# Altium footprint library imx8mnano.PcbLib: 15 footprints
Each footprint in its own frame and in the unit in brackets; x right, y up, seen from the top. Pads: shape width x height; smd on the part's side, far side on the other; paste and mask are expansions set on the pad; w line width, h text height; cw(c..) or ccw(c..) is an arc to the next point about the centre after c.
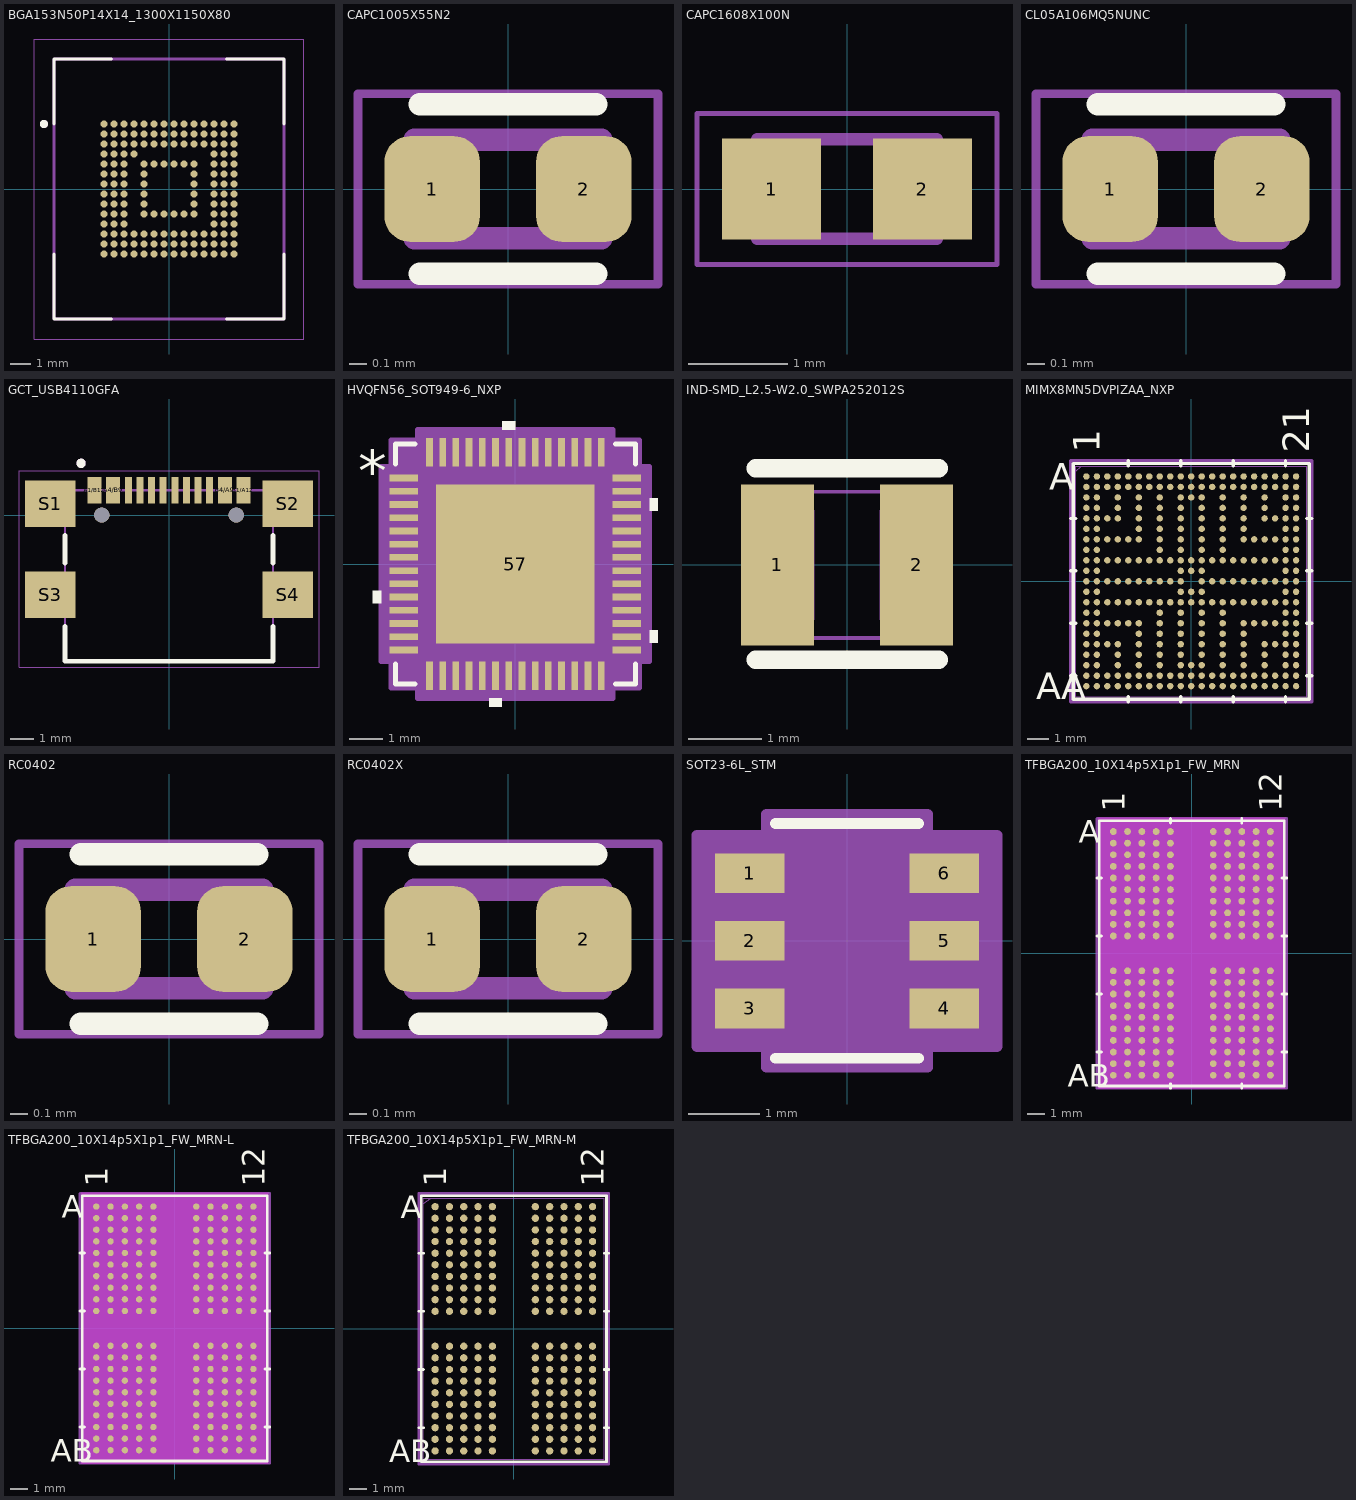
[diagram p0: the footprints below, top view; thin cyan lines are the x and y axes]

## BGA153N50P14X14_1300X1150X80 [mm]
height 0.8
pads (153):
  round 0.35 smd: A1(-3.25,3.25) A2(-2.75,3.25) A3(-2.25,3.25) A4(-1.75,3.25) A5(-1.25,3.25) A6(-0.75,3.25) A7(-0.25,3.25) A8(0.25,3.25) A9(0.75,3.25) A10(1.25,3.25) A11(1.75,3.25) A12(2.25,3.25) A13(2.75,3.25) A14(3.25,3.25) B1(-3.25,2.75) B2(-2.75,2.75) B3(-2.25,2.75) B4(-1.75,2.75) B5(-1.25,2.75) B6(-0.75,2.75) B7(-0.25,2.75) B8(0.25,2.75) B9(0.75,2.75) B10(1.25,2.75) B11(1.75,2.75) B12(2.25,2.75) B13(2.75,2.75) B14(3.25,2.75) C1(-3.25,2.25) C2(-2.75,2.25) C3(-2.25,2.25) C4(-1.75,2.25) C5(-1.25,2.25) C6(-0.75,2.25) C7(-0.25,2.25) C8(0.25,2.25) C9(0.75,2.25) C10(1.25,2.25) C11(1.75,2.25) C12(2.25,2.25) C13(2.75,2.25) C14(3.25,2.25) D1(-3.25,1.75) D2(-2.75,1.75) D3(-2.25,1.75) D4(-1.75,1.75) D12(2.25,1.75) D13(2.75,1.75) D14(3.25,1.75) E1(-3.25,1.25) E2(-2.75,1.25) E3(-2.25,1.25) E5(-1.25,1.25) E6(-0.75,1.25) E7(-0.25,1.25) E8(0.25,1.25) E9(0.75,1.25) E10(1.25,1.25) E12(2.25,1.25) E13(2.75,1.25) E14(3.25,1.25) F1(-3.25,0.75) F2(-2.75,0.75) F3(-2.25,0.75) F5(-1.25,0.75) F10(1.25,0.75) F12(2.25,0.75) F13(2.75,0.75) F14(3.25,0.75) G1(-3.25,0.25) G2(-2.75,0.25) G3(-2.25,0.25) G5(-1.25,0.25) G10(1.25,0.25) G12(2.25,0.25) G13(2.75,0.25) G14(3.25,0.25) H1(-3.25,-0.25) H2(-2.75,-0.25) H3(-2.25,-0.25) H5(-1.25,-0.25) H10(1.25,-0.25) H12(2.25,-0.25) H13(2.75,-0.25) H14(3.25,-0.25) J1(-3.25,-0.75) J2(-2.75,-0.75) J3(-2.25,-0.75) J5(-1.25,-0.75) J10(1.25,-0.75) J12(2.25,-0.75) J13(2.75,-0.75) J14(3.25,-0.75) K1(-3.25,-1.25) K2(-2.75,-1.25) K3(-2.25,-1.25) K5(-1.25,-1.25) K6(-0.75,-1.25) K7(-0.25,-1.25) K8(0.25,-1.25) K9(0.75,-1.25) K10(1.25,-1.25) K12(2.25,-1.25) K13(2.75,-1.25) K14(3.25,-1.25) L1(-3.25,-1.75) L2(-2.75,-1.75) L3(-2.25,-1.75) L12(2.25,-1.75) L13(2.75,-1.75) L14(3.25,-1.75) M1(-3.25,-2.25) M2(-2.75,-2.25) M3(-2.25,-2.25) M4(-1.75,-2.25) M5(-1.25,-2.25) M6(-0.75,-2.25) M7(-0.25,-2.25) M8(0.25,-2.25) M9(0.75,-2.25) M10(1.25,-2.25) M11(1.75,-2.25) M12(2.25,-2.25) M13(2.75,-2.25) M14(3.25,-2.25) N1(-3.25,-2.75) N2(-2.75,-2.75) N3(-2.25,-2.75) N4(-1.75,-2.75) N5(-1.25,-2.75) N6(-0.75,-2.75) N7(-0.25,-2.75) N8(0.25,-2.75) N9(0.75,-2.75) N10(1.25,-2.75) N11(1.75,-2.75) N12(2.25,-2.75) N13(2.75,-2.75) N14(3.25,-2.75) P1(-3.25,-3.25) P2(-2.75,-3.25) P3(-2.25,-3.25) P4(-1.75,-3.25) P5(-1.25,-3.25) P6(-0.75,-3.25) P7(-0.25,-3.25) P8(0.25,-3.25) P9(0.75,-3.25) P10(1.25,-3.25) P11(1.75,-3.25) P12(2.25,-3.25) P13(2.75,-3.25) P14(3.25,-3.25)
Top Overlay:
  circle w0.2: c-6.25,3.25 r0.1
  lines w0.127: -5.75,-3.25 -5.75,-6.5 -2.875,-6.5 ; -5.75,3.25 -5.75,6.5 -2.875,6.5 ; 2.875,-6.5 5.75,-6.5 5.75,-3.25 ; 2.875,6.5 5.75,6.5 5.75,3.25
Mechanical 13:
  circle w0.2: c-6.25,3.25 r0.1
  lines w0.127: -5.75,-6.5 5.75,-6.5 5.75,6.5 -5.75,6.5 -5.75,-6.5
Mechanical 15:
  lines w0.05: -6.75,-7.5 6.75,-7.5 6.75,7.5 -6.75,7.5 -6.75,-7.5

## CAPC1005X55N2 [mm]
pads (2):
  rrect53% 0.54x0.6 smd: 1(-0.43,0) 2(0.43,0)
Top Overlay:
  lines w0.127: -0.5,-0.48 0.5,-0.48 ; -0.5,0.48 0.5,0.48
Mechanical 13:
  lines w0.127: -0.53,-0.28 0.53,-0.28 0.53,0.28 -0.53,0.28 -0.53,-0.28
Mechanical 15:
  lines w0.05: -0.85,-0.54 0.85,-0.54 0.85,0.54 -0.85,0.54 -0.85,-0.54
3D body "YAG_CC0402_YAG.step": height 0.56, standoff 0, extent -0.521,-0.279 0.521,0.279

## CAPC1608X100N [mm]
pads (2):
  rect 1x1.02 smd: 1(-0.759,0) 2(0.759,0)
Mechanical 13:
  lines w0.127: -0.9,-0.5 -0.9,0.5 0.9,0.5 0.9,-0.5 -0.9,-0.5
Mechanical 15:
  lines w0.05: -1.508,-0.758 -1.508,0.758 1.508,0.758 1.508,-0.758 -1.508,-0.758
3D body "step_temp.STEP": height 1, standoff 0, extent -0.8,-0.4 0.8,0.4

## CL05A106MQ5NUNC [mm]
pads (2):
  rrect53% 0.54x0.6 smd: 1(-0.43,0) 2(0.43,0)
Top Overlay:
  lines w0.127: -0.5,-0.48 0.5,-0.48 ; -0.5,0.48 0.5,0.48
Mechanical 13:
  lines w0.127: -0.53,-0.28 -0.53,0.28 0.53,0.28 0.53,-0.28 -0.53,-0.28
Mechanical 15:
  lines w0.05: -0.85,-0.54 -0.85,0.54 0.85,0.54 0.85,-0.54 -0.85,-0.54

## GCT_USB4110GFA [mm]
pads (18):
  rect 0.6x1.15 smd: A1/B12(-3.2,1.075) A4/B9(-2.4,1.075) B1/A12(3.2,1.075) B4/A9(2.4,1.075)
  rect 0.3x1.15 smd: A5(-1.25,1.075) A6(-0.25,1.075) A7(0.25,1.075) A8(1.25,1.075) B5(1.75,1.075) B6(0.75,1.075) B7(-0.75,1.075) B8(-1.75,1.075)
  rect 2.18x2 smd: S1(-5.11,0.5) S2(5.11,0.5) S3(-5.11,-3.43) S4(5.11,-3.43)
  round 0.65 hole 0.65 unplated: ""(-2.89,0) ""(2.89,0)
Top Overlay:
  circle w0.2: c-3.78,2.23 r0.1
  lines w0.2: -4.47,-4.79 -4.47,-6.28 4.47,-6.28 4.47,-4.79 ; -4.47,-2.07 -4.47,-0.86 ; 4.47,-2.07 4.47,-0.86
Mechanical 13:
  circle w0.2: c-3.78,2.23 r0.1
  lines w0.1: -4.47,-6.28 4.47,-6.28 4.47,1.07 -4.47,1.07 -4.47,-6.28
Mechanical 15:
  lines w0.05: -6.45,-6.53 -6.45,1.9 6.45,1.9 6.45,-6.53 -6.45,-6.53
3D body "step_temp.STEP": height 3.26, standoff -0.63, extent -5.65,-6.28 5.65,1.42

## HVQFN56_SOT949-6_NXP [mil]
pads (57):
  rect 34x8 smd paste+0 mask+0: 1(-133,102.36) 2(-133,86.61) 3(-133,70.87) 4(-133,55.12) 5(-133,39.37) 6(-133,23.62) 7(-133,7.87) 8(-133,-7.87) 9(-133,-23.62) 10(-133,-39.37) 11(-133,-55.12) 12(-133,-70.87) 13(-133,-86.61) 14(-133,-102.36) 29(133,-102.36) 30(133,-86.61) 31(133,-70.87) 32(133,-55.12) 33(133,-39.37) 34(133,-23.62) 35(133,-7.87) 36(133,7.87) 37(133,23.62) 38(133,39.37) 39(133,55.12) 40(133,70.87) 41(133,86.61) 42(133,102.36)
  rect 8x34 smd paste+0 mask+0: 15(-102.36,-133) 16(-86.61,-133) 17(-70.87,-133) 18(-55.12,-133) 19(-39.37,-133) 20(-23.62,-133) 21(-7.87,-133) 22(7.87,-133) 23(23.62,-133) 24(39.37,-133) 25(55.12,-133) 26(70.87,-133) 27(86.61,-133) 28(102.36,-133) 43(102.36,133) 44(86.61,133) 45(70.87,133) 46(55.12,133) 47(39.37,133) 48(23.62,133) 49(7.87,133) 50(-7.87,133) 51(-23.62,133) 52(-39.37,133) 53(-55.12,133) 54(-70.87,133) 55(-86.61,133) 56(-102.36,133)
  rect 189x189 smd paste-94.5 mask+0: 57(0,0)
Top Overlay:
  region: -160,-31.87 -170,-31.87 -170,-46.87 -160,-46.87
  region: -16.12,-160 -31.12,-160 -31.12,-170 -16.12,-170
  region: 160,-79.11 170,-79.11 170,-94.11 160,-94.11
  region: 160,78.37 170,78.37 170,63.37 160,63.37
  region: -0.37,160 -15.37,160 -15.37,170 -0.37,170
  lines w6: -143,-119.46 -143,-143 -119.46,-143 ; -143,119.46 -143,143 -119.46,143 ; 119.46,-143 143,-143 143,-119.46 ; 119.46,143 143,143 143,119.46
  text "*" at -187.5,85.24 h50
Top Paste:
  region: -35.44,90.56 -90.56,90.56 -90.56,35.44 -35.44,35.44
  region: -35.44,27.56 -90.56,27.56 -90.56,-27.56 -35.44,-27.56
  region: -35.44,-35.44 -90.56,-35.44 -90.56,-90.56 -35.44,-90.56
  region: 27.56,90.56 -27.56,90.56 -27.56,35.44 27.56,35.44
  region: 27.56,27.56 -27.56,27.56 -27.56,-27.56 27.56,-27.56
  region: 27.56,-35.44 -27.56,-35.44 -27.56,-90.56 27.56,-90.56
  region: 90.56,90.56 35.44,90.56 35.44,35.44 90.56,35.44
  region: 90.56,27.56 35.44,27.56 35.44,-27.56 90.56,-27.56
  region: 90.56,-35.44 35.44,-35.44 35.44,-90.56 90.56,-90.56
Mechanical 13:
  lines w1: -138,88 -88,138 ; -138,-138 138,-138 138,138 -138,138 -138,-138 ; -138,-107.36 -138,-97.36 -138,-107.36 ; -138,-91.61 -138,-81.61 -138,-91.61 ; -138,-75.87 -138,-65.87 -138,-75.87 ; -138,-60.12 -138,-50.12 -138,-60.12 ; -138,-44.37 -138,-34.37 -138,-44.37 ; -138,-28.62 -138,-18.62 -138,-28.62 ; -138,-12.87 -138,-2.87 -138,-12.87 ; -138,2.87 -138,12.87 -138,2.87 ; -138,18.62 -138,28.62 -138,18.62 ; -138,34.37 -138,44.37 -138,34.37 ; -138,50.12 -138,60.12 -138,50.12 ; -138,65.87 -138,75.87 -138,65.87 ; -138,81.61 -138,91.61 -138,81.61 ; -138,97.36 -138,107.36 -138,97.36 ; -107.36,-138 -97.36,-138 -107.36,-138 ; -107.36,138 -97.36,138 -107.36,138 ; -91.61,-138 -81.61,-138 -91.61,-138 ; -91.61,138 -81.61,138 -91.61,138 ; -75.87,-138 -65.87,-138 -75.87,-138 ; -75.87,138 -65.87,138 -75.87,138 ; -60.12,-138 -50.12,-138 -60.12,-138 ; -60.12,138 -50.12,138 -60.12,138 ; -44.37,-138 -34.37,-138 -44.37,-138 ; -44.37,138 -34.37,138 -44.37,138 ; -28.62,-138 -18.62,-138 -28.62,-138 ; -28.62,138 -18.62,138 -28.62,138 ; -12.87,-138 -2.87,-138 -12.87,-138 ; -12.87,138 -2.87,138 -12.87,138 ; 2.87,-138 12.87,-138 2.87,-138 ; 2.87,138 12.87,138 2.87,138 ; 18.62,-138 28.62,-138 18.62,-138 ; 18.62,138 28.62,138 18.62,138 ; 34.37,-138 44.37,-138 34.37,-138 ; 34.37,138 44.37,138 34.37,138 ; 50.12,-138 60.12,-138 50.12,-138 ; 50.12,138 60.12,138 50.12,138 ; 65.87,-138 75.87,-138 65.87,-138 ; 65.87,138 75.87,138 65.87,138 ; 81.61,-138 91.61,-138 81.61,-138 ; 81.61,138 91.61,138 81.61,138 ; 97.36,-138 107.36,-138 97.36,-138 ; 97.36,138 107.36,138 97.36,138 ; 138,-107.36 138,-97.36 138,-107.36 ; 138,-91.61 138,-81.61 138,-91.61 ; 138,-75.87 138,-65.87 138,-75.87 ; 138,-60.12 138,-50.12 138,-60.12 ; 138,-44.37 138,-34.37 138,-44.37 ; 138,-28.62 138,-18.62 138,-28.62 ; 138,-12.87 138,-2.87 138,-12.87 ; 138,2.87 138,12.87 138,2.87 ; 138,18.62 138,28.62 138,18.62 ; 138,34.37 138,44.37 138,34.37 ; 138,50.12 138,60.12 138,50.12 ; 138,65.87 138,75.87 138,65.87 ; 138,81.61 138,91.61 138,81.61 ; 138,97.36 138,107.36 138,97.36
  text "*" at -128.5,85.24 h50
Mechanical 15:
  region: -116.36,-148 -148,-148 -148,-116.36 -160,-116.36 -160,116.36 -148,116.36 -148,148 -116.36,148 -116.36,160 116.36,160 116.36,148 148,148 148,116.36 160,116.36 160,-116.36 148,-116.36 148,-148 116.36,-148 116.36,-160 -116.36,-160
  lines w6: -160,-116.36 -148,-116.36 -148,-148 -116.36,-148 -116.36,-160 116.36,-160 116.36,-148 148,-148 148,-116.36 160,-116.36 160,116.36 148,116.36 148,148 116.36,148 116.36,160 -116.36,160 -116.36,148 -148,148 -148,116.36 -160,116.36 -160,-116.36
3D body "HVQFN56_SOT949-6_NXP.step": height 39.09, standoff 0, extent -137.99,-137.99 137.99,137.99

## IND-SMD_L2.5-W2.0_SWPA252012S [mm]
pads (2):
  rect 1x2.2 smd: 1(-0.95,0) 2(0.95,0)
Top Overlay:
  lines w0.254: -1.245,-1.295 1.255,-1.295 ; -1.245,1.321 1.255,1.321
Mechanical 15:
  region: -1.19,-1 -1.19,-0.975 -1.225,-0.94 -1.275,-0.94 -1.31,-0.975 -1.31,-1 -1.31,-1.025 -1.275,-1.06 -1.225,-1.06 -1.19,-1.025
  region: 0.45,0.75 1.25,0.75 1.25,-0.75 0.45,-0.75
  region: -1.25,0.75 -0.45,0.75 -0.45,-0.75 -1.25,-0.75
  lines w0.051: -1.25,-1 1.25,-1 1.25,1 -1.25,1 -1.25,-1
3D body "L_1008_2520Metric.step": height 1.2, standoff 0, extent -1.25,-1 1.25,1

## IND_SPH2520 [mil]

## MIMX8MN5DVPIZAA_NXP [mil]
pads (306):
  round 12 smd paste+0 mask+0: A1(-196.9,196.9) A2(-177.21,196.9) A3(-157.52,196.9) A4(-137.83,196.9) A5(-118.14,196.9) A6(-98.45,196.9) A7(-78.76,196.9) A8(-59.07,196.9) A9(-39.38,196.9) A10(-19.69,196.9) A11(0,196.9) A12(19.69,196.9) A13(39.38,196.9) A14(59.07,196.9) A15(78.76,196.9) A16(98.45,196.9) A17(118.14,196.9) A18(137.83,196.9) A19(157.52,196.9) A20(177.21,196.9) A21(196.9,196.9) AA1(-196.9,-196.9) AA2(-177.21,-196.9) AA3(-157.52,-196.9) AA4(-137.83,-196.9) AA5(-118.14,-196.9) AA6(-98.45,-196.9) AA7(-78.76,-196.9) AA8(-59.07,-196.9) AA9(-39.38,-196.9) AA10(-19.69,-196.9) AA11(0,-196.9) AA12(19.69,-196.9) AA13(39.38,-196.9) AA14(59.07,-196.9) AA15(78.76,-196.9) AA16(98.45,-196.9) AA17(118.14,-196.9) AA18(137.83,-196.9) AA19(157.52,-196.9) AA20(177.21,-196.9) AA21(196.9,-196.9) B1(-196.9,177.21) B2(-177.21,177.21) B3(-157.52,177.21) B4(-137.83,177.21) B5(-118.14,177.21) B6(-98.45,177.21) B7(-78.76,177.21) B8(-59.07,177.21) B9(-39.38,177.21) B10(-19.69,177.21) B11(0,177.21) B12(19.69,177.21) B13(39.38,177.21) B14(59.07,177.21) B15(78.76,177.21) B16(98.45,177.21) B17(118.14,177.21) B18(137.83,177.21) B19(157.52,177.21) B20(177.21,177.21) B21(196.9,177.21) C1(-196.9,157.52) C2(-177.21,157.52) C4(-137.83,157.52) C6(-98.45,157.52) C8(-59.07,157.52) C10(-19.69,157.52) C11(0,157.52) C12(19.69,157.52) C14(59.07,157.52) C16(98.45,157.52) C18(137.83,157.52) C20(177.21,157.52) C21(196.9,157.52) D1(-196.9,137.83) D2(-177.21,137.83) D4(-137.83,137.83) D6(-98.45,137.83) D8(-59.07,137.83) D10(-19.69,137.83) D12(19.69,137.83) D14(59.07,137.83) D16(98.45,137.83) D18(137.83,137.83) D20(177.21,137.83) D21(196.9,137.83) E1(-196.9,118.14) E2(-177.21,118.14) E3(-157.52,118.14) E4(-137.83,118.14) E6(-98.45,118.14) E8(-59.07,118.14) E10(-19.69,118.14) E12(19.69,118.14) E14(59.07,118.14) E16(98.45,118.14) E18(137.83,118.14) E19(157.52,118.14) E20(177.21,118.14) E21(196.9,118.14) F1(-196.9,98.45) F2(-177.21,98.45) F6(-98.45,98.45) F8(-59.07,98.45) F10(-19.69,98.45) F12(19.69,98.45) F14(59.07,98.45) F16(98.45,98.45) F20(177.21,98.45) F21(196.9,98.45) G1(-196.9,78.76) G2(-177.21,78.76) G3(-157.52,78.76) G4(-137.83,78.76) G5(-118.14,78.76) G6(-98.45,78.76) G8(-59.07,78.76) G10(-19.69,78.76) G12(19.69,78.76) G14(59.07,78.76) G16(98.45,78.76) G17(118.14,78.76) G18(137.83,78.76) G19(157.52,78.76) G20(177.21,78.76) G21(196.9,78.76) H1(-196.9,59.07) H2(-177.21,59.07) H8(-59.07,59.07) H10(-19.69,59.07) H12(19.69,59.07) H14(59.07,59.07) H20(177.21,59.07) H21(196.9,59.07) J1(-196.9,39.38) J2(-177.21,39.38) J3(-157.52,39.38) J4(-137.83,39.38) J5(-118.14,39.38) J6(-98.45,39.38) J7(-78.76,39.38) J8(-59.07,39.38) J9(-39.38,39.38) J10(-19.69,39.38) J11(0,39.38) J12(19.69,39.38) J13(39.38,39.38) J14(59.07,39.38) J15(78.76,39.38) J16(98.45,39.38) J17(118.14,39.38) J18(137.83,39.38) J19(157.52,39.38) J20(177.21,39.38) J21(196.9,39.38) K1(-196.9,19.69) K2(-177.21,19.69) K10(-19.69,19.69) K11(0,19.69) K12(19.69,19.69) K20(177.21,19.69) K21(196.9,19.69) L1(-196.9,0) L2(-177.21,0) L3(-157.52,0) L4(-137.83,0) L5(-118.14,0) L6(-98.45,0) L7(-78.76,0) L8(-59.07,0) L9(-39.38,0) L10(-19.69,0) L12(19.69,0) L13(39.38,0) L14(59.07,0) L15(78.76,0) L16(98.45,0) L17(118.14,0) L18(137.83,0) L19(157.52,0) L20(177.21,0) L21(196.9,0) M1(-196.9,-19.69) M2(-177.21,-19.69) M10(-19.69,-19.69) M11(0,-19.69) M12(19.69,-19.69) M20(177.21,-19.69) M21(196.9,-19.69) N1(-196.9,-39.38) N2(-177.21,-39.38) N3(-157.52,-39.38) N4(-137.83,-39.38) N5(-118.14,-39.38) N6(-98.45,-39.38) N7(-78.76,-39.38) N8(-59.07,-39.38) N9(-39.38,-39.38) N10(-19.69,-39.38) N11(0,-39.38) N12(19.69,-39.38) N13(39.38,-39.38) N14(59.07,-39.38) N15(78.76,-39.38) N16(98.45,-39.38) N17(118.14,-39.38) N18(137.83,-39.38) N19(157.52,-39.38) N20(177.21,-39.38) N21(196.9,-39.38) P1(-196.9,-59.07) P2(-177.21,-59.07) P8(-59.07,-59.07) P10(-19.69,-59.07) P12(19.69,-59.07) P14(59.07,-59.07) P20(177.21,-59.07) P21(196.9,-59.07) R1(-196.9,-78.76) R2(-177.21,-78.76) R3(-157.52,-78.76) R4(-137.83,-78.76) R5(-118.14,-78.76) R6(-98.45,-78.76) R8(-59.07,-78.76) R10(-19.69,-78.76) R12(19.69,-78.76) R14(59.07,-78.76) R16(98.45,-78.76) R17(118.14,-78.76) R18(137.83,-78.76) R19(157.52,-78.76) R20(177.21,-78.76) R21(196.9,-78.76) T1(-196.9,-98.45) T2(-177.21,-98.45) T6(-98.45,-98.45) T8(-59.07,-98.45) T10(-19.69,-98.45) T12(19.69,-98.45) T14(59.07,-98.45) T16(98.45,-98.45) T20(177.21,-98.45) T21(196.9,-98.45) U1(-196.9,-118.14) U2(-177.21,-118.14) U3(-157.52,-118.14) U4(-137.83,-118.14) U6(-98.45,-118.14) U8(-59.07,-118.14) U10(-19.69,-118.14) U12(19.69,-118.14) U14(59.07,-118.14) U16(98.45,-118.14) U18(137.83,-118.14) U19(157.52,-118.14) U20(177.21,-118.14) U21(196.9,-118.14) V1(-196.9,-137.83) V2(-177.21,-137.83) V4(-137.83,-137.83) V6(-98.45,-137.83) V8(-59.07,-137.83) V10(-19.69,-137.83) V12(19.69,-137.83) V14(59.07,-137.83) V16(98.45,-137.83) V18(137.83,-137.83) V20(177.21,-137.83) V21(196.9,-137.83) W1(-196.9,-157.52) W2(-177.21,-157.52) W4(-137.83,-157.52) W6(-98.45,-157.52) W8(-59.07,-157.52) W10(-19.69,-157.52) W11(0,-157.52) W12(19.69,-157.52) W14(59.07,-157.52) W16(98.45,-157.52) W18(137.83,-157.52) W20(177.21,-157.52) W21(196.9,-157.52) Y1(-196.9,-177.21) Y2(-177.21,-177.21) Y3(-157.52,-177.21) Y4(-137.83,-177.21) Y5(-118.14,-177.21) Y6(-98.45,-177.21) Y7(-78.76,-177.21) Y8(-59.07,-177.21) Y9(-39.38,-177.21) Y10(-19.69,-177.21) Y11(0,-177.21) Y12(19.69,-177.21) Y13(39.38,-177.21) Y14(59.07,-177.21) Y15(78.76,-177.21) Y16(98.45,-177.21) Y17(118.14,-177.21) Y18(137.83,-177.21) Y19(157.52,-177.21) Y20(177.21,-177.21) Y21(196.9,-177.21)
Top Overlay:
  lines w6: -226.5,-177.21 -216.5,-177.21 ; -226.5,-78.76 -216.5,-78.76 ; -226.5,19.69 -216.5,19.69 ; -226.5,118.14 -216.5,118.14 ; -118.14,-226.5 -118.14,-216.5 ; -118.14,216.5 -118.14,226.5 ; -19.69,-226.5 -19.69,-216.5 ; -19.69,216.5 -19.69,226.5 ; 78.76,-226.5 78.76,-216.5 ; 78.76,216.5 78.76,226.5 ; 177.21,-226.5 177.21,-216.5 ; 177.21,216.5 177.21,226.5 ; 216.5,-177.21 226.5,-177.21 ; 216.5,-78.76 226.5,-78.76 ; 216.5,19.69 226.5,19.69 ; 216.5,118.14 226.5,118.14 ; -221.5,-221.5 -221.5,221.5 221.5,221.5 221.5,-221.5 -221.5,-221.5
  text "21" at 221.9,241.5 h50
  text "1" at -171.9,241.5 h50
  text "AA" at -291.5,-221.9 h50
  text "A" at -266.5,171.9 h50
Bottom Overlay:
  text "21" at 171.9,241.5 h50
  text "1" at -221.9,241.5 h50
  text "AA" at -241.5,-221.9 h50
  text "A" at -241.5,171.9 h50
Mechanical 13:
  lines w1: -216.5,206.66 -206.66,216.5 ; -216.5,-216.5 -216.5,216.5 216.5,216.5 216.5,-216.5 -216.5,-216.5
  text "21" at 221.9,241.5 h50
  text "1" at -171.9,241.5 h50
  text "AA" at -291.5,-221.9 h50
  text "A" at -266.5,171.9 h50
Mechanical 15:
  lines w6: -226.5,-226.5 226.5,-226.5 226.5,226.5 -226.5,226.5 -226.5,-226.5

## RC0402 [mm]
pads (2):
  rrect53% 0.54x0.6 smd: 1(-0.43,0) 2(0.43,0)
Top Overlay:
  lines w0.127: -0.5,-0.48 0.5,-0.48 ; -0.5,0.48 0.5,0.48
Mechanical 13:
  lines w0.127: -0.53,-0.28 -0.53,0.28 0.53,0.28 0.53,-0.28 -0.53,-0.28
Mechanical 15:
  lines w0.05: -0.85,-0.54 -0.85,0.54 0.85,0.54 0.85,-0.54 -0.85,-0.54
3D body "YAG_CC0402_YAG.step": height 0.56, standoff 0, extent -0.521,-0.279 0.521,0.279

## RC0402X [mm]
pads (2):
  rrect53% 0.54x0.6 smd: 1(-0.43,0) 2(0.43,0)
Top Overlay:
  lines w0.127: -0.5,-0.48 0.5,-0.48 ; -0.5,0.48 0.5,0.48
Mechanical 13:
  lines w0.127: -0.53,-0.28 0.53,-0.28 0.53,0.28 -0.53,0.28 -0.53,-0.28
Mechanical 15:
  lines w0.05: -0.85,-0.54 0.85,-0.54 0.85,0.54 -0.85,0.54 -0.85,-0.54
3D body "RC0402FR-072KP.step": height 0.4, standoff 0, extent -0.5,-0.25 0.5,0.25

## SOT23-6L_STM [mil]
pads (6):
  rect 38.5x22 smd paste+0 mask+0: 1(-53.75,37.4) 2(-53.75,0) 3(-53.75,-37.4) 4(53.75,-37.4) 5(53.75,0) 6(53.75,37.4)
Top Overlay:
  lines w6: -39.5,-65 39.5,-65 ; -39.5,65 39.5,65
  text "." at -65,65 h50
Mechanical 13:
  lines w0: -12,60 ccw(c0,60) 12,60
  lines w1: -59,-47.4 -59,-27.4 -34.5,-27.4 -34.5,-47.4 -59,-47.4 ; -59,-10 -59,10 -34.5,10 -34.5,-10 -59,-10 ; -59,27.4 -59,47.4 -34.5,47.4 -34.5,27.4 -59,27.4 ; -34.5,-60 34.5,-60 34.5,60 -34.5,60 -34.5,-60 ; 34.5,-47.4 34.5,-27.4 59,-27.4 59,-47.4 34.5,-47.4 ; 34.5,-10 34.5,10 59,10 59,-10 34.5,-10 ; 34.5,27.4 34.5,47.4 59,47.4 59,27.4 34.5,27.4
  text "*" at -32,7 h50
Mechanical 15:
  region: -44.5,-58.4 -83,-58.4 -83,58.4 -44.5,58.4 -44.5,70 44.5,70 44.5,58.4 83,58.4 83,-58.4 44.5,-58.4 44.5,-70 -44.5,-70
  lines w6: -83,-58.4 -83,58.4 -44.5,58.4 -44.5,70 44.5,70 44.5,58.4 83,58.4 83,-58.4 44.5,-58.4 44.5,-70 -44.5,-70 -44.5,-58.4 -83,-58.4
3D body "SOT23-6L_STM.step": height 57.09, standoff 0, extent -59.02,-60 59.02,60

## TFBGA200_10X14p5X1p1_FW_MRN [mil]
pads (200):
  round 15 smd paste+0 mask+0: A1(-173.23,268.69) A2(-141.73,268.69) A3(-110.24,268.69) A4(-78.74,268.69) A5(-47.24,268.69) A8(47.24,268.69) A9(78.74,268.69) A10(110.24,268.69) A11(141.73,268.69) A12(173.23,268.69) AA1(-173.23,-243.1) AA2(-141.73,-243.1) AA3(-110.24,-243.1) AA4(-78.74,-243.1) AA5(-47.24,-243.1) AA8(47.24,-243.1) AA9(78.74,-243.1) AA10(110.24,-243.1) AA11(141.73,-243.1) AA12(173.23,-243.1) AB1(-173.23,-268.69) AB2(-141.73,-268.69) AB3(-110.24,-268.69) AB4(-78.74,-268.69) AB5(-47.24,-268.69) AB8(47.24,-268.69) AB9(78.74,-268.69) AB10(110.24,-268.69) AB11(141.73,-268.69) AB12(173.23,-268.69) B1(-173.23,243.1) B2(-141.73,243.1) B3(-110.24,243.1) B4(-78.74,243.1) B5(-47.24,243.1) B8(47.24,243.1) B9(78.74,243.1) B10(110.24,243.1) B11(141.73,243.1) B12(173.23,243.1) C1(-173.23,217.51) C2(-141.73,217.51) C3(-110.24,217.51) C4(-78.74,217.51) C5(-47.24,217.51) C8(47.24,217.51) C9(78.74,217.51) C10(110.24,217.51) C11(141.73,217.51) C12(173.23,217.51) D1(-173.23,191.93) D2(-141.73,191.93) D3(-110.24,191.93) D4(-78.74,191.93) D5(-47.24,191.93) D8(47.24,191.93) D9(78.74,191.93) D10(110.24,191.93) D11(141.73,191.93) D12(173.23,191.93) E1(-173.23,166.34) E2(-141.73,166.34) E3(-110.24,166.34) E4(-78.74,166.34) E5(-47.24,166.34) E8(47.24,166.34) E9(78.74,166.34) E10(110.24,166.34) E11(141.73,166.34) E12(173.23,166.34) F1(-173.23,140.75) F2(-141.73,140.75) F3(-110.24,140.75) F4(-78.74,140.75) F5(-47.24,140.75) F8(47.24,140.75) F9(78.74,140.75) F10(110.24,140.75) F11(141.73,140.75) F12(173.23,140.75) G1(-173.23,115.16) G2(-141.73,115.16) G3(-110.24,115.16) G4(-78.74,115.16) G5(-47.24,115.16) G8(47.24,115.16) G9(78.74,115.16) G10(110.24,115.16) G11(141.73,115.16) G12(173.23,115.16) H1(-173.23,89.56) H2(-141.73,89.56) H3(-110.24,89.56) H4(-78.74,89.56) H5(-47.24,89.56) H8(47.24,89.56) H9(78.74,89.56) H10(110.24,89.56) H11(141.73,89.56) H12(173.23,89.56) J1(-173.23,63.98) J2(-141.73,63.98) J3(-110.24,63.98) J4(-78.74,63.98) J5(-47.24,63.98) J8(47.24,63.98) J9(78.74,63.98) J10(110.24,63.98) J11(141.73,63.98) J12(173.23,63.98) K1(-173.23,38.38) K2(-141.73,38.38) K3(-110.24,38.38) K4(-78.74,38.38) K5(-47.24,38.38) K8(47.24,38.38) K9(78.74,38.38) K10(110.24,38.38) K11(141.73,38.38) K12(173.23,38.38) N1(-173.23,-38.38) N2(-141.73,-38.38) N3(-110.24,-38.38) N4(-78.74,-38.38) N5(-47.24,-38.38) N8(47.24,-38.38) N9(78.74,-38.38) N10(110.24,-38.38) N11(141.73,-38.38) N12(173.23,-38.38) P1(-173.23,-63.98) P2(-141.73,-63.98) P3(-110.24,-63.98) P4(-78.74,-63.98) P5(-47.24,-63.98) P8(47.24,-63.98) P9(78.74,-63.98) P10(110.24,-63.98) P11(141.73,-63.98) P12(173.23,-63.98) R1(-173.23,-89.56) R2(-141.73,-89.56) R3(-110.24,-89.56) R4(-78.74,-89.56) R5(-47.24,-89.56) R8(47.24,-89.56) R9(78.74,-89.56) R10(110.24,-89.56) R11(141.73,-89.56) R12(173.23,-89.56) T1(-173.23,-115.16) T2(-141.73,-115.16) T3(-110.24,-115.16) T4(-78.74,-115.16) T5(-47.24,-115.16) T8(47.24,-115.16) T9(78.74,-115.16) T10(110.24,-115.16) T11(141.73,-115.16) T12(173.23,-115.16) U1(-173.23,-140.75) U2(-141.73,-140.75) U3(-110.24,-140.75) U4(-78.74,-140.75) U5(-47.24,-140.75) U8(47.24,-140.75) U9(78.74,-140.75) U10(110.24,-140.75) U11(141.73,-140.75) U12(173.23,-140.75) V1(-173.23,-166.34) V2(-141.73,-166.34) V3(-110.24,-166.34) V4(-78.74,-166.34) V5(-47.24,-166.34) V8(47.24,-166.34) V9(78.74,-166.34) V10(110.24,-166.34) V11(141.73,-166.34) V12(173.23,-166.34) W1(-173.23,-191.93) W2(-141.73,-191.93) W3(-110.24,-191.93) W4(-78.74,-191.93) W5(-47.24,-191.93) W8(47.24,-191.93) W9(78.74,-191.93) W10(110.24,-191.93) W11(141.73,-191.93) W12(173.23,-191.93) Y1(-173.23,-217.51) Y2(-141.73,-217.51) Y3(-110.24,-217.51) Y4(-78.74,-217.51) Y5(-47.24,-217.51) Y8(47.24,-217.51) Y9(78.74,-217.51) Y10(110.24,-217.51) Y11(141.73,-217.51) Y12(173.23,-217.51)
Top Overlay:
  lines w6: -209,-217.51 -199,-217.51 ; -209,-89.56 -199,-89.56 ; -209,38.39 -199,38.39 ; -209,166.34 -199,166.34 ; -47.24,-297.5 -47.24,-287.5 ; -47.24,287.5 -47.24,297.5 ; 110.24,-297.5 110.24,-287.5 ; 110.24,287.5 110.24,297.5 ; 199,-217.51 209,-217.51 ; 199,-89.56 209,-89.56 ; 199,38.39 209,38.39 ; 199,166.34 209,166.34 ; -204,-292.5 204,-292.5 204,292.5 -204,292.5 -204,-292.5
  text "A" at -249,243.69 h50
  text "AB" at -274,-293.69 h50
  text "1" at -148.23,312.5 h50
  text "12" at 198.23,312.5 h50
Bottom Overlay:
  text "A" at -224,243.69 h50
  text "AB" at -224,-293.69 h50
  text "1" at -198.23,312.5 h50
  text "12" at 148.23,312.5 h50
Keep-Out Layer:
  region: -206.48,-298.99 -206.48,298.99 206.48,298.99 206.48,-298.99
Mechanical 13:
  lines w1: -199,274.7 -183.25,287.5 ; -199,-287.5 199,-287.5 199,287.5 -199,287.5 -199,-287.5
  text "A" at -249,243.69 h50
  text "AB" at -274,-293.69 h50
  text "1" at -148.23,312.5 h50
  text "12" at 198.23,312.5 h50
Mechanical 15:
  region: 209,-297.5 -209,-297.5 -209,297.5 209,297.5
  lines w6: -209,-297.5 -209,297.5 209,297.5 209,-297.5 -209,-297.5
3D body "TFBGA200_10X14p5X1p1_FW_MRN.step": height 43.11, standoff -0.01, extent -199.02,-287.48 199.02,287.48

## TFBGA200_10X14p5X1p1_FW_MRN-L [mil]
pads (200):
  round 14 smd paste+0 mask+0: A1(-173.23,268.69) A2(-141.73,268.69) A3(-110.24,268.69) A4(-78.74,268.69) A5(-47.24,268.69) A8(47.24,268.69) A9(78.74,268.69) A10(110.24,268.69) A11(141.73,268.69) A12(173.23,268.69) AA1(-173.23,-243.1) AA2(-141.73,-243.1) AA3(-110.24,-243.1) AA4(-78.74,-243.1) AA5(-47.24,-243.1) AA8(47.24,-243.1) AA9(78.74,-243.1) AA10(110.24,-243.1) AA11(141.73,-243.1) AA12(173.23,-243.1) AB1(-173.23,-268.69) AB2(-141.73,-268.69) AB3(-110.24,-268.69) AB4(-78.74,-268.69) AB5(-47.24,-268.69) AB8(47.24,-268.69) AB9(78.74,-268.69) AB10(110.24,-268.69) AB11(141.73,-268.69) AB12(173.23,-268.69) B1(-173.23,243.1) B2(-141.73,243.1) B3(-110.24,243.1) B4(-78.74,243.1) B5(-47.24,243.1) B8(47.24,243.1) B9(78.74,243.1) B10(110.24,243.1) B11(141.73,243.1) B12(173.23,243.1) C1(-173.23,217.51) C2(-141.73,217.51) C3(-110.24,217.51) C4(-78.74,217.51) C5(-47.24,217.51) C8(47.24,217.51) C9(78.74,217.51) C10(110.24,217.51) C11(141.73,217.51) C12(173.23,217.51) D1(-173.23,191.93) D2(-141.73,191.93) D3(-110.24,191.93) D4(-78.74,191.93) D5(-47.24,191.93) D8(47.24,191.93) D9(78.74,191.93) D10(110.24,191.93) D11(141.73,191.93) D12(173.23,191.93) E1(-173.23,166.34) E2(-141.73,166.34) E3(-110.24,166.34) E4(-78.74,166.34) E5(-47.24,166.34) E8(47.24,166.34) E9(78.74,166.34) E10(110.24,166.34) E11(141.73,166.34) E12(173.23,166.34) F1(-173.23,140.75) F2(-141.73,140.75) F3(-110.24,140.75) F4(-78.74,140.75) F5(-47.24,140.75) F8(47.24,140.75) F9(78.74,140.75) F10(110.24,140.75) F11(141.73,140.75) F12(173.23,140.75) G1(-173.23,115.16) G2(-141.73,115.16) G3(-110.24,115.16) G4(-78.74,115.16) G5(-47.24,115.16) G8(47.24,115.16) G9(78.74,115.16) G10(110.24,115.16) G11(141.73,115.16) G12(173.23,115.16) H1(-173.23,89.56) H2(-141.73,89.56) H3(-110.24,89.56) H4(-78.74,89.56) H5(-47.24,89.56) H8(47.24,89.56) H9(78.74,89.56) H10(110.24,89.56) H11(141.73,89.56) H12(173.23,89.56) J1(-173.23,63.98) J2(-141.73,63.98) J3(-110.24,63.98) J4(-78.74,63.98) J5(-47.24,63.98) J8(47.24,63.98) J9(78.74,63.98) J10(110.24,63.98) J11(141.73,63.98) J12(173.23,63.98) K1(-173.23,38.38) K2(-141.73,38.38) K3(-110.24,38.38) K4(-78.74,38.38) K5(-47.24,38.38) K8(47.24,38.38) K9(78.74,38.38) K10(110.24,38.38) K11(141.73,38.38) K12(173.23,38.38) N1(-173.23,-38.38) N2(-141.73,-38.38) N3(-110.24,-38.38) N4(-78.74,-38.38) N5(-47.24,-38.38) N8(47.24,-38.38) N9(78.74,-38.38) N10(110.24,-38.38) N11(141.73,-38.38) N12(173.23,-38.38) P1(-173.23,-63.98) P2(-141.73,-63.98) P3(-110.24,-63.98) P4(-78.74,-63.98) P5(-47.24,-63.98) P8(47.24,-63.98) P9(78.74,-63.98) P10(110.24,-63.98) P11(141.73,-63.98) P12(173.23,-63.98) R1(-173.23,-89.56) R2(-141.73,-89.56) R3(-110.24,-89.56) R4(-78.74,-89.56) R5(-47.24,-89.56) R8(47.24,-89.56) R9(78.74,-89.56) R10(110.24,-89.56) R11(141.73,-89.56) R12(173.23,-89.56) T1(-173.23,-115.16) T2(-141.73,-115.16) T3(-110.24,-115.16) T4(-78.74,-115.16) T5(-47.24,-115.16) T8(47.24,-115.16) T9(78.74,-115.16) T10(110.24,-115.16) T11(141.73,-115.16) T12(173.23,-115.16) U1(-173.23,-140.75) U2(-141.73,-140.75) U3(-110.24,-140.75) U4(-78.74,-140.75) U5(-47.24,-140.75) U8(47.24,-140.75) U9(78.74,-140.75) U10(110.24,-140.75) U11(141.73,-140.75) U12(173.23,-140.75) V1(-173.23,-166.34) V2(-141.73,-166.34) V3(-110.24,-166.34) V4(-78.74,-166.34) V5(-47.24,-166.34) V8(47.24,-166.34) V9(78.74,-166.34) V10(110.24,-166.34) V11(141.73,-166.34) V12(173.23,-166.34) W1(-173.23,-191.93) W2(-141.73,-191.93) W3(-110.24,-191.93) W4(-78.74,-191.93) W5(-47.24,-191.93) W8(47.24,-191.93) W9(78.74,-191.93) W10(110.24,-191.93) W11(141.73,-191.93) W12(173.23,-191.93) Y1(-173.23,-217.51) Y2(-141.73,-217.51) Y3(-110.24,-217.51) Y4(-78.74,-217.51) Y5(-47.24,-217.51) Y8(47.24,-217.51) Y9(78.74,-217.51) Y10(110.24,-217.51) Y11(141.73,-217.51) Y12(173.23,-217.51)
Top Overlay:
  lines w6: -209,-217.51 -199,-217.51 ; -209,-89.56 -199,-89.56 ; -209,38.39 -199,38.39 ; -209,166.34 -199,166.34 ; 199,-217.51 209,-217.51 ; 199,-89.56 209,-89.56 ; 199,38.39 209,38.39 ; 199,166.34 209,166.34 ; -204,-292.5 204,-292.5 204,292.5 -204,292.5 -204,-292.5
  text "A" at -249,243.69 h50
  text "AB" at -274,-293.69 h50
  text "1" at -148.23,312.5 h50
  text "12" at 198.23,312.5 h50
Bottom Overlay:
  text "A" at -224,243.69 h50
  text "AB" at -224,-293.69 h50
  text "1" at -198.23,312.5 h50
  text "12" at 148.23,312.5 h50
Keep-Out Layer:
  region: -206.48,-298.99 -206.48,298.99 206.48,298.99 206.48,-298.99
Mechanical 13:
  lines w1: -199,274.7 -183.25,287.5 ; -199,-287.5 199,-287.5 199,287.5 -199,287.5 -199,-287.5
  text "A" at -249,243.69 h50
  text "AB" at -274,-293.69 h50
  text "1" at -148.23,312.5 h50
  text "12" at 198.23,312.5 h50
Mechanical 15:
  region: 209,-297.5 -209,-297.5 -209,297.5 209,297.5
  lines w6: -209,-297.5 -209,297.5 209,297.5 209,-297.5 -209,-297.5
3D body "TFBGA200_10X14p5X1p1_FW_MRN.step": height 43.11, standoff -0.01, extent -199.02,-287.48 199.02,287.48

## TFBGA200_10X14p5X1p1_FW_MRN-M [mil]
pads (200):
  round 16 smd paste+0 mask+0: A1(-173.23,268.69) A2(-141.73,268.69) A3(-110.24,268.69) A4(-78.74,268.69) A5(-47.24,268.69) A8(47.24,268.69) A9(78.74,268.69) A10(110.24,268.69) A11(141.73,268.69) A12(173.23,268.69) AA1(-173.23,-243.1) AA2(-141.73,-243.1) AA3(-110.24,-243.1) AA4(-78.74,-243.1) AA5(-47.24,-243.1) AA8(47.24,-243.1) AA9(78.74,-243.1) AA10(110.24,-243.1) AA11(141.73,-243.1) AA12(173.23,-243.1) AB1(-173.23,-268.69) AB2(-141.73,-268.69) AB3(-110.24,-268.69) AB4(-78.74,-268.69) AB5(-47.24,-268.69) AB8(47.24,-268.69) AB9(78.74,-268.69) AB10(110.24,-268.69) AB11(141.73,-268.69) AB12(173.23,-268.69) B1(-173.23,243.1) B2(-141.73,243.1) B3(-110.24,243.1) B4(-78.74,243.1) B5(-47.24,243.1) B8(47.24,243.1) B9(78.74,243.1) B10(110.24,243.1) B11(141.73,243.1) B12(173.23,243.1) C1(-173.23,217.51) C2(-141.73,217.51) C3(-110.24,217.51) C4(-78.74,217.51) C5(-47.24,217.51) C8(47.24,217.51) C9(78.74,217.51) C10(110.24,217.51) C11(141.73,217.51) C12(173.23,217.51) D1(-173.23,191.93) D2(-141.73,191.93) D3(-110.24,191.93) D4(-78.74,191.93) D5(-47.24,191.93) D8(47.24,191.93) D9(78.74,191.93) D10(110.24,191.93) D11(141.73,191.93) D12(173.23,191.93) E1(-173.23,166.34) E2(-141.73,166.34) E3(-110.24,166.34) E4(-78.74,166.34) E5(-47.24,166.34) E8(47.24,166.34) E9(78.74,166.34) E10(110.24,166.34) E11(141.73,166.34) E12(173.23,166.34) F1(-173.23,140.75) F2(-141.73,140.75) F3(-110.24,140.75) F4(-78.74,140.75) F5(-47.24,140.75) F8(47.24,140.75) F9(78.74,140.75) F10(110.24,140.75) F11(141.73,140.75) F12(173.23,140.75) G1(-173.23,115.16) G2(-141.73,115.16) G3(-110.24,115.16) G4(-78.74,115.16) G5(-47.24,115.16) G8(47.24,115.16) G9(78.74,115.16) G10(110.24,115.16) G11(141.73,115.16) G12(173.23,115.16) H1(-173.23,89.56) H2(-141.73,89.56) H3(-110.24,89.56) H4(-78.74,89.56) H5(-47.24,89.56) H8(47.24,89.56) H9(78.74,89.56) H10(110.24,89.56) H11(141.73,89.56) H12(173.23,89.56) J1(-173.23,63.98) J2(-141.73,63.98) J3(-110.24,63.98) J4(-78.74,63.98) J5(-47.24,63.98) J8(47.24,63.98) J9(78.74,63.98) J10(110.24,63.98) J11(141.73,63.98) J12(173.23,63.98) K1(-173.23,38.38) K2(-141.73,38.38) K3(-110.24,38.38) K4(-78.74,38.38) K5(-47.24,38.38) K8(47.24,38.38) K9(78.74,38.38) K10(110.24,38.38) K11(141.73,38.38) K12(173.23,38.38) N1(-173.23,-38.38) N2(-141.73,-38.38) N3(-110.24,-38.38) N4(-78.74,-38.38) N5(-47.24,-38.38) N8(47.24,-38.38) N9(78.74,-38.38) N10(110.24,-38.38) N11(141.73,-38.38) N12(173.23,-38.38) P1(-173.23,-63.98) P2(-141.73,-63.98) P3(-110.24,-63.98) P4(-78.74,-63.98) P5(-47.24,-63.98) P8(47.24,-63.98) P9(78.74,-63.98) P10(110.24,-63.98) P11(141.73,-63.98) P12(173.23,-63.98) R1(-173.23,-89.56) R2(-141.73,-89.56) R3(-110.24,-89.56) R4(-78.74,-89.56) R5(-47.24,-89.56) R8(47.24,-89.56) R9(78.74,-89.56) R10(110.24,-89.56) R11(141.73,-89.56) R12(173.23,-89.56) T1(-173.23,-115.16) T2(-141.73,-115.16) T3(-110.24,-115.16) T4(-78.74,-115.16) T5(-47.24,-115.16) T8(47.24,-115.16) T9(78.74,-115.16) T10(110.24,-115.16) T11(141.73,-115.16) T12(173.23,-115.16) U1(-173.23,-140.75) U2(-141.73,-140.75) U3(-110.24,-140.75) U4(-78.74,-140.75) U5(-47.24,-140.75) U8(47.24,-140.75) U9(78.74,-140.75) U10(110.24,-140.75) U11(141.73,-140.75) U12(173.23,-140.75) V1(-173.23,-166.34) V2(-141.73,-166.34) V3(-110.24,-166.34) V4(-78.74,-166.34) V5(-47.24,-166.34) V8(47.24,-166.34) V9(78.74,-166.34) V10(110.24,-166.34) V11(141.73,-166.34) V12(173.23,-166.34) W1(-173.23,-191.93) W2(-141.73,-191.93) W3(-110.24,-191.93) W4(-78.74,-191.93) W5(-47.24,-191.93) W8(47.24,-191.93) W9(78.74,-191.93) W10(110.24,-191.93) W11(141.73,-191.93) W12(173.23,-191.93) Y1(-173.23,-217.51) Y2(-141.73,-217.51) Y3(-110.24,-217.51) Y4(-78.74,-217.51) Y5(-47.24,-217.51) Y8(47.24,-217.51) Y9(78.74,-217.51) Y10(110.24,-217.51) Y11(141.73,-217.51) Y12(173.23,-217.51)
Top Overlay:
  lines w6: -209,-217.51 -199,-217.51 ; -209,-89.56 -199,-89.56 ; -209,38.39 -199,38.39 ; -209,166.34 -199,166.34 ; 199,-217.51 209,-217.51 ; 199,-89.56 209,-89.56 ; 199,38.39 209,38.39 ; 199,166.34 209,166.34 ; -204,-292.5 204,-292.5 204,292.5 -204,292.5 -204,-292.5
  text "A" at -249,243.69 h50
  text "AB" at -274,-293.69 h50
  text "1" at -148.23,312.5 h50
  text "12" at 198.23,312.5 h50
Bottom Overlay:
  text "A" at -224,243.69 h50
  text "AB" at -224,-293.69 h50
  text "1" at -198.23,312.5 h50
  text "12" at 148.23,312.5 h50
Mechanical 13:
  lines w1: -199,274.7 -183.25,287.5 ; -199,-287.5 199,-287.5 199,287.5 -199,287.5 -199,-287.5
  text "A" at -249,243.69 h50
  text "AB" at -274,-293.69 h50
  text "1" at -148.23,312.5 h50
  text "12" at 198.23,312.5 h50
Mechanical 15:
  lines w6: -209,-297.5 -209,297.5 209,297.5 209,-297.5 -209,-297.5